# Altium schematic symbol library maj.SchLib: 16 symbols
Pins are listed as number, name and electrical type; pins without a type are passive.

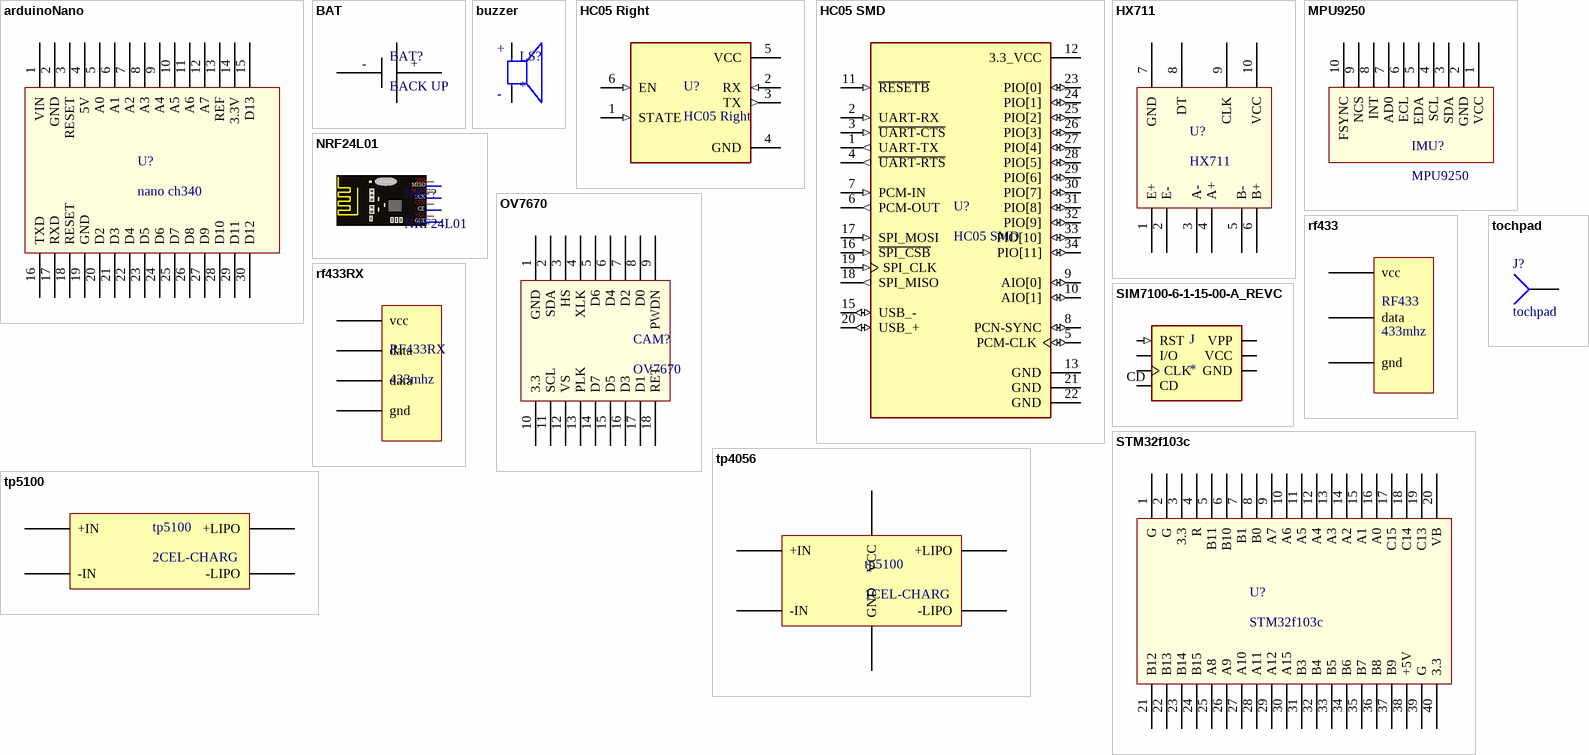
[diagram p0: symbols arduinoNano to tp5100]

## arduinoNano
designator U?, comment nano ch340
VALU: nano ch340
footprint ARDUINO NANO
pins: 1 VIN, 2 GND, 3 RESET, 4 5V, 5 A0, 6 A1, 7 A2, 8 A3, 9 A4, 10 A5, 11 A6, 12 A7, 13 REF, 14 3.3V, 15 D13, 16 TXD, 17 RXD, 18 RESET, 19 GND, 20 D2, 21 D3, 22 D4, 23 D5, 24 D6, 25 D7, 26 D8, 27 D9, 28 D10, 29 D11, 30 D12

## BAT
designator BAT?, comment BACK UP
Volt: 3.7; Value: BACK UP
footprint BATRY HOLDER 2032
pins: + -, -

## buzzer
designator LS?
Valu: *
footprint buzzer
pins: N, P
text: +; -

## HC05 Right
designator U?
MP: ZC142200; MF: YKS; Availability: Unavailable; SnapEDA_Link: https://www.snapeda.com/parts/ZC142200/YKS/view-part/618924/?ref=snap; Value: *; Price: None; Package: None
footprint HC05 Right
pins: 1 STATE (in), 2 RX (in), 3 TX (out), 4 GND (power), 5 VCC (power), 6 EN (in)

## HC05 SMD
designator U?
MP: HC-05; MF: Texas Instruments; Value: *; SnapEDA_Link: https://www.snapeda.com/parts/HC-05/Texas%20Instruments/view-part/106410/?ref=snap; Availability: Unavailable; Price: None; Package: SOIC-14
footprint HC05 SMD
pins: 1 UART-TX (out), 2 UART-RX (in), 3 ~{UART-CTS} (in), 4 ~{UART-RTS} (out), 5 PCM-CLK (io), 6 PCM-OUT (out), 7 PCM-IN (in), 8 PCN-SYNC (io), 9 AIO[0] (io), 10 AIO[1] (io), 11 ~{RESETB} (in), 12 3.3_VCC (power), 13 GND (power), 15 USB_- (io), 16 ~{SPI_CSB} (in), 17 SPI_MOSI (in), 18 SPI_MISO (out), 19 SPI_CLK (in), 20 USB_+ (io), 21 GND (power), 22 GND (power), 23 PIO[0] (io), 24 PIO[1] (io), 25 PIO[2] (io), 26 PIO[3] (io), 27 PIO[4] (io), 28 PIO[5] (io), 29 PIO[6] (io), 30 PIO[7] (io), 31 PIO[8] (io), 32 PIO[9] (io), 33 PIO[10] (io), 34 PIO[11] (io)

## HX711
designator U?
Valu: HX711
footprint HX711
pins: 1 E+, 2 E-, 3 A-, 4 A+, 5 B-, 6 B+, 7 GND, 8 DT, 9 CLK, 10 VCC

## MPU9250
designator IMU?
VALU: MPU9250
footprint MPU9250
pins: 1 VCC, 2 GND, 3 SDA, 4 SCL, 5 EDA, 6 ECL, 7 AD0, 8 INT, 9 NCS, 10 FSYNC

## NRF24L01
designator NRF?
footprint NRF
footprint NRF_SMD
pins: CE, CSN, GND (power), IRQ, MISO, MOSI, SCK, VCC (power)

## OV7670
designator CAM?
VALU: OV7670
footprint OV7670
pins: 1 GND, 2 SDA, 3 HS, 4 XLK, 5 D6, 6 D4, 7 D2, 8 D0, 9 PWDN, 10 3.3, 11 SCL, 12 VS, 13 PLK, 14 D7, 15 D5, 16 D3, 17 D1, 18 RET

## rf433
designator RF433, comment 433mhz
Value: 433mhz
footprint rfmajul
footprint rfmajulvertikal
pins: 1 vcc, 2 data, 3 gnd

## rf433RX
designator RF433RX, comment 433mhz
Value: 433mhz
footprint rfmajulResiver 433
pins: 1 vcc, 2 data, 3 data, 4 gnd

## SIM7100-6-1-15-00-A_REVC
designator J
7 _6 + 1_ Position Card Connector Micro SIM Surface Mount, Right Angle Gold; MP: SIM7100-6-1-15-00-A; MF: Global Connector Technology; Package: None; Availability: Unavailable; SnapEDA_Link: https://www.snapeda.com/parts/SIM7100-6-1-15-00-A/Global%20Connector%20Technology/view-part/449163/?ref=snap; Price: None; Value: *
footprint GCT_SIM7100-6-1-15-00-A_REVC
pins: C1 VCC (power), C2 RST (in), C3 CLK (io), C5 GND (power), C6 VPP (power), C7 I/O (io), CD

## STM32f103c
designator U?
VALU: STM32f103c
footprint STM32f103c
pins: 1 G, 2 G, 3 3.3, 4 R, 5 B11, 6 B10, 7 B1, 8 B0, 9 A7, 10 A6, 11 A5, 12 A4, 13 A3, 14 A2, 15 A1, 16 A0, 17 C15, 18 C14, 19 C13, 20 VB, 21 B12, 22 B13, 23 B14, 24 B15, 25 A8, 26 A9, 27 A10, 28 A11, 29 A12, 30 A15, 31 B3, 32 B4, 33 B5, 34 B6, 35 B7, 36 B8, 37 B9, 38 +5V, 39 G, 40 3.3

## tochpad
designator J?
Value: 30mm*30mm
footprint TOCH-PIN (Connector; Plug)
pins: 1

## tp4056
designator tp5100, comment 1CEL-CHARG
Volt: 8-18 input; Value: 1CEL-CHARG
footprint tp4056
pins: 1 GND, 2 -LIPO, 3 +LIPO, 4 VCC, 5 -IN, 6 +IN

## tp5100
designator tp5100, comment 2CEL-CHARG
Volt: 8-18 input; Value: 2CEL-CHARG
footprint tp5100
pins: 1 +IN, 2 -IN, 3 +LIPO, 4 -LIPO